# Altium footprint library DisplayPort.PcbLib: 3 footprints
Each footprint in its own frame and in the unit in brackets; x right, y up, seen from the top. Pads: shape width x height; smd on the part's side, far side on the other; paste and mask are expansions set on the pad; w line width, h text height; cw(c..) or ccw(c..) is an arc to the next point about the centre after c.
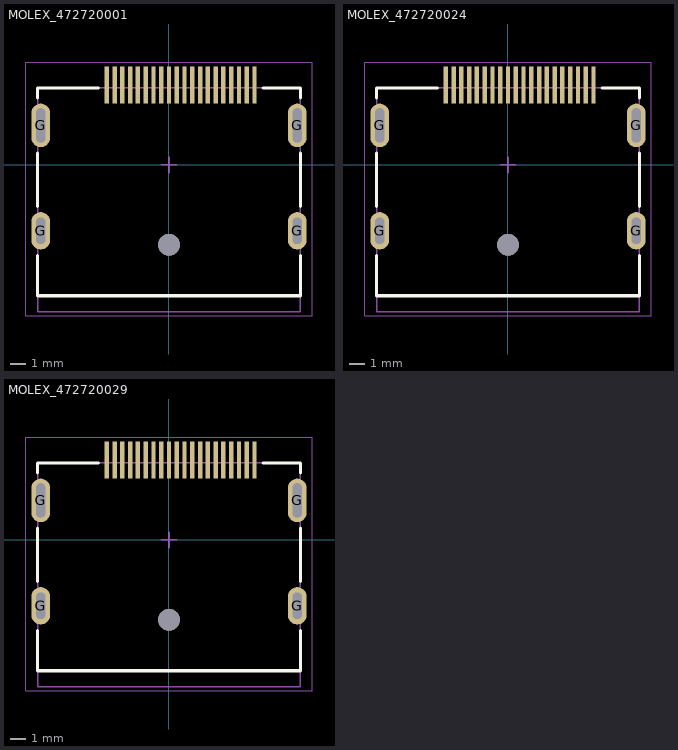
[diagram p0: the footprints below, top view; thin cyan lines are the x and y axes]

## MOLEX_472720001 [mm]
height 6.98
pads (25):
  rect 0.28x2.4 smd mask+0.07: 1(5.5,5.14) 2(5,5.14) 3(4.5,5.14) 4(4,5.14) 5(3.5,5.14) 6(3,5.14) 7(2.5,5.14) 8(2,5.14) 9(1.5,5.14) 10(1,5.14) 11(0.5,5.14) 12(0,5.14) 13(-0.5,5.14) 14(-1,5.14) 15(-1.5,5.14) 16(-2,5.14) 17(-2.5,5.14) 18(-3,5.14) 19(-3.5,5.14) 20(-4,5.14)
  oval 1.2x2.4 hole 0.6 slot 1.7 at 90 deg mask+0.07: G(-8.25,-4.24) G(8.25,-4.24)
  oval 1.2x2.8 hole 0.6 slot 2.2 at 90 deg mask+0.07: G(-8.25,2.54) G(8.25,2.54)
  round 1.4 hole 1.4 unplated mask+0.07: ""(0,-5.14)
Top Overlay:
  lines w0.2: -8.45,-5.82 -8.45,-8.42 8.45,-8.42 8.45,-5.82 ; -8.45,-2.66 -8.45,0.76 ; -8.45,4.32 -8.45,4.95 -4.54,4.95 ; 6.04,4.95 8.45,4.95 8.45,4.32 ; 8.45,-2.66 8.45,0.76
Top Assembly:
  lines w0.1: -8.45,-8.42 -8.45,4.95 8.45,4.95 8.45,-8.42 -8.45,-8.42
  text ".Designator" at -2.253,-0.226 h1
Top Courtyard:
  lines w0.05: -9.2,-9.69 -9.2,6.59 9.2,6.59 9.2,-9.69 -9.2,-9.69
  lines w0.1: -0.5,0 0.5,0 ; 0,-0.5 0,0.5
Assembly Notes:
  lines w0.1: -8.45,-9.44 -8.45,-8.42 8.45,-8.42 8.45,-9.44 -8.45,-9.44
  text "PCB Edge" at 6.266,-8.238 h0.51
3D body "472720001.stp": height 6.67, standoff -2.08, extent -8.895,-9.42 8.89,5.47

## MOLEX_472720024 [mm]
height 6.98
pads (25):
  rect 0.28x2.4 smd mask+0.07: 1(5.5,5.14) 2(5,5.14) 3(4.5,5.14) 4(4,5.14) 5(3.5,5.14) 6(3,5.14) 7(2.5,5.14) 8(2,5.14) 9(1.5,5.14) 10(1,5.14) 11(0.5,5.14) 12(0,5.14) 13(-0.5,5.14) 14(-1,5.14) 15(-1.5,5.14) 16(-2,5.14) 17(-2.5,5.14) 18(-3,5.14) 19(-3.5,5.14) 20(-4,5.14)
  oval 1.2x2.4 hole 0.6 slot 1.7 at 90 deg mask+0.07: G(-8.25,-4.24) G(8.25,-4.24)
  oval 1.2x2.8 hole 0.6 slot 2.2 at 90 deg mask+0.07: G(-8.25,2.54) G(8.25,2.54)
  round 1.4 hole 1.4 unplated mask+0.07: ""(0,-5.14)
Top Overlay:
  lines w0.2: -8.45,-5.82 -8.45,-8.42 8.45,-8.42 8.45,-5.82 ; -8.45,-2.66 -8.45,0.76 ; -8.45,4.32 -8.45,4.95 -4.54,4.95 ; 6.04,4.95 8.45,4.95 8.45,4.32 ; 8.45,-2.66 8.45,0.76
Top Assembly:
  lines w0.1: -8.45,-8.42 8.45,-8.42 8.45,4.95 -8.45,4.95 -8.45,-8.42
  text ".Designator" at -2.253,-0.226 h1
Top Courtyard:
  lines w0.05: -9.2,-9.69 9.2,-9.69 9.2,6.59 -9.2,6.59 -9.2,-9.69
  lines w0.1: -0.5,0 0.5,0 ; 0,-0.5 0,0.5
Assembly Notes:
  lines w0.1: -8.45,-9.44 8.45,-9.44 8.45,-8.42 -8.45,-8.42 -8.45,-9.44
  text "PCB Edge" at 6.266,-8.238 h0.51
3D body "472720024.stp": height 6.67, standoff -2.08, extent -8.895,-12.72 8.89,5.47

## MOLEX_472720029 [mm]
height 6.98
pads (25):
  rect 0.28x2.4 smd mask+0.07: 1(5.5,5.14) 2(5,5.14) 3(4.5,5.14) 4(4,5.14) 5(3.5,5.14) 6(3,5.14) 7(2.5,5.14) 8(2,5.14) 9(1.5,5.14) 10(1,5.14) 11(0.5,5.14) 12(0,5.14) 13(-0.5,5.14) 14(-1,5.14) 15(-1.5,5.14) 16(-2,5.14) 17(-2.5,5.14) 18(-3,5.14) 19(-3.5,5.14) 20(-4,5.14)
  oval 1.2x2.4 hole 0.6 slot 1.7 at 90 deg mask+0.07: G(-8.25,-4.24) G(8.25,-4.24)
  oval 1.2x2.8 hole 0.6 slot 2.2 at 90 deg mask+0.07: G(-8.25,2.54) G(8.25,2.54)
  round 1.4 hole 1.4 unplated mask+0.07: ""(0,-5.14)
Top Overlay:
  lines w0.2: -8.45,-5.82 -8.45,-8.42 8.45,-8.42 8.45,-5.82 ; -8.45,-2.66 -8.45,0.76 ; -8.45,4.32 -8.45,4.95 -4.54,4.95 ; 6.04,4.95 8.45,4.95 8.45,4.32 ; 8.45,-2.66 8.45,0.76
Top Assembly:
  lines w0.1: -8.45,-8.42 8.45,-8.42 8.45,4.95 -8.45,4.95 -8.45,-8.42
  text ".Designator" at -2.253,-0.226 h1
Top Courtyard:
  lines w0.05: -9.2,-9.69 9.2,-9.69 9.2,6.59 -9.2,6.59 -9.2,-9.69
  lines w0.1: -0.5,0 0.5,0 ; 0,-0.5 0,0.5
Assembly Notes:
  lines w0.1: -8.45,-9.44 8.45,-9.44 8.45,-8.42 -8.45,-8.42 -8.45,-9.44
  text "PCB Edge" at 6.266,-8.238 h0.51
3D body "472720029.stp": height 6.67, standoff -1.98, extent -8.895,-9.42 8.89,5.47